# Altium schematic symbol library Inductor-1uH_LB3218T1R0M.SchLib: 1 symbol
Pins are listed as number, name and electrical type; pins without a type are passive.

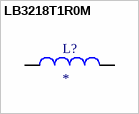
[diagram p0: symbol LB3218T1R0M]

## LB3218T1R0M
designator L?
1 ÂµH Unshielded Drum Core, Wirewound Inductor 1.075 A 60mOhm 1207 (3218 Metric); MF: Taiyo Yuden; MP: LB3218T1R0M; SnapEDA_Link: https://www.snapeda.com/parts/LB3218T1R0M/Taiyo+Yuden/view-part/?ref=snap; Package: 3218 Taiyo Yuden; Value: *; Check_prices: https://www.snapeda.com/parts/LB3218T1R0M/Taiyo+Yuden/view-part/?ref=eda
footprint INDC3218X200N
pins: 1, 2